# Altium footprint library OpenUltrasound_PcbLib.PcbLib: 28 footprints (part 2 of 2)
Each footprint in its own frame and in the unit in brackets; x right, y up, seen from the top. Pads: shape width x height; smd on the part's side, far side on the other; paste and mask are expansions set on the pad; w line width, h text height; cw(c..) or ccw(c..) is an arc to the next point about the centre after c.
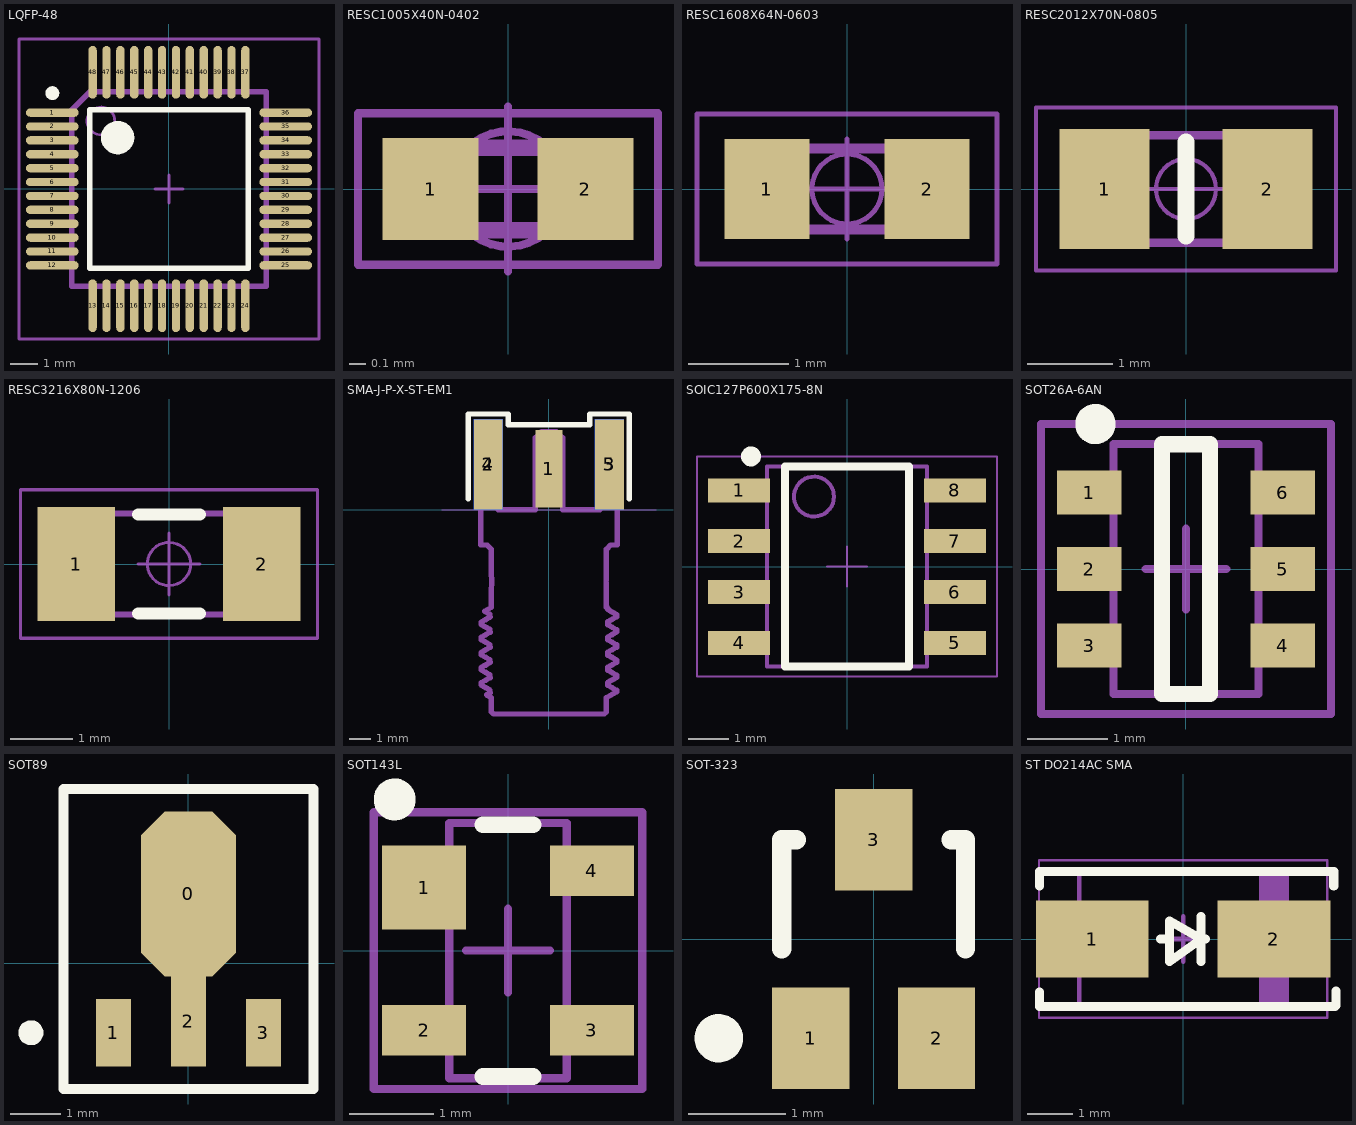
[diagram p1: the footprints below, top view; thin cyan lines are the x and y axes]

## LQFP-48 [mm] "TSQFP, 48-Leads, Body 9,0x9,0mm (max), Pitch 0,50mm, IPC Medium Density"
height 1.2
pads (48):
  oval 1.9x0.3 smd: 1(-4.2,2.75) 2(-4.2,2.25) 3(-4.2,1.75) 4(-4.2,1.25) 5(-4.2,0.75) 6(-4.2,0.25) 7(-4.2,-0.25) 8(-4.2,-0.75) 9(-4.2,-1.25) 10(-4.2,-1.75) 11(-4.2,-2.25) 12(-4.2,-2.75) 25(4.2,-2.75) 26(4.2,-2.25) 27(4.2,-1.75) 28(4.2,-1.25) 29(4.2,-0.75) 30(4.2,-0.25) 31(4.2,0.25) 32(4.2,0.75) 33(4.2,1.25) 34(4.2,1.75) 35(4.2,2.25) 36(4.2,2.75)
  oval 0.3x1.9 smd: 13(-2.75,-4.2) 14(-2.25,-4.2) 15(-1.75,-4.2) 16(-1.25,-4.2) 17(-0.75,-4.2) 18(-0.25,-4.2) 19(0.25,-4.2) 20(0.75,-4.2) 21(1.25,-4.2) 22(1.75,-4.2) 23(2.25,-4.2) 24(2.75,-4.2) 37(2.75,4.2) 38(2.25,4.2) 39(1.75,4.2) 40(1.25,4.2) 41(0.75,4.2) 42(0.25,4.2) 43(-0.25,4.2) 44(-0.75,4.2) 45(-1.25,4.2) 46(-1.75,4.2) 47(-2.25,4.2) 48(-2.75,4.2)
Top Overlay:
  circle w0.25: c-4.2,3.45 r0.125
  circle w0.6: c-1.85,1.85 r0.3
  lines w0.2: -2.85,-2.85 -2.85,2.85 2.85,2.85 2.85,-2.85 -2.85,-2.85
Mechanical 13:
  circle w0.1: c-2.45,2.45 r0.5
  lines w0.2: -3.5,-3.5 3.5,-3.5 3.5,3.5 -2.85,3.5 -3.5,2.85 -3.5,-3.5
  text ".Designator" at -2.54,-1.905 h2.5
Mechanical 15:
  lines w0.1: -0.5,0 0.5,0 ; 0,-0.5 0,0.5 ; -5.4,-5.4 -5.4,5.4 5.4,5.4 5.4,-5.4 -5.4,-5.4
3D body "LQFP48.step": height 1.5, standoff 0, extent -4.5,-4.5 4.5,4.5

## RESC1005X40N-0402 [mm] "Chip Resistor, EIA 0402, Metric 1005, Body 1.0x0.5mm, IPC Medium Density"
height 0.4
pads (2):
  rect 0.58x0.62 smd: 1(-0.47,0) 2(0.47,0)
Mechanical 14:
  lines w0.1: -0.5,-0.25 0.5,-0.25 0.5,0.25 -0.5,0.25 -0.5,-0.25
Mechanical 15:
  circle w0.05: c0,0 r0.35
  lines w0.05: -0.5,0 0.5,0 ; 0,-0.5 0,0.5 ; -0.91,-0.46 0.91,-0.46 0.91,0.46 -0.91,0.46 -0.91,-0.46
3D body "RESC1005X40N.stp": height 0.4, standoff 0, extent -0.525,-0.275 0.525,0.275

## RESC1608X64N-0603 [mm] "Chip Resistor, EIA 0603, Metric 1608, Body 1.6x0.8mm, IPC Medium Density"
height 0.64
pads (2):
  rect 0.85x1 smd: 1(-0.8,0) 2(0.8,0)
Mechanical 14:
  lines w0.1: -0.8,-0.405 -0.8,0.405 0.8,0.405 0.8,-0.405 -0.8,-0.405
Mechanical 15:
  circle w0.05: c0,0 r0.35
  lines w0.05: -0.5,0 0.5,0 ; 0,-0.5 0,0.5 ; -1.5,-0.75 -1.5,0.75 1.5,0.75 1.5,-0.75 -1.5,-0.75
3D body "RESC1608X64N.stp": height 0.64, standoff 0, extent -0.875,-0.475 0.875,0.475

## RESC2012X70N-0805 [mm] "Chip Resistor, EIA 0805, Metric 2012, Body 2.0x1.25mm, IPC Medium Density"
height 0.7
pads (2):
  rect 1.05x1.4 smd: 1(-0.95,0) 2(0.95,0)
Top Overlay:
  lines w0.2: 0,-0.55 0,0.55
Mechanical 14:
  lines w0.1: -1,-0.625 -1,0.625 1,0.625 1,-0.625 -1,-0.625
Mechanical 15:
  circle w0.05: c0,0 r0.35
  lines w0.05: -0.5,0 0.5,0 ; 0,-0.5 0,0.5 ; -1.75,-0.95 -1.75,0.95 1.75,0.95 1.75,-0.95 -1.75,-0.95
3D body "RESC2012X70N.stp": height 0.7, standoff 0, extent -1.1,-0.675 1.1,0.675

## RESC3216X80N-1206 [mm] "Chip Resistor, EIA 1206, Metric 3216, Body 3.2x1.6mm, IPC Medium Density"
height 0.8
pads (2):
  rect 1.25x1.85 smd: 1(-1.5,0) 2(1.5,0)
Top Overlay:
  lines w0.2: -0.5,-0.8 0.5,-0.8 ; -0.5,0.8 0.5,0.8
Mechanical 14:
  lines w0.1: -1.6,-0.815 -1.6,0.815 1.6,0.815 1.6,-0.815 -1.6,-0.815
Mechanical 15:
  circle w0.05: c0,0 r0.35
  lines w0.05: -0.5,0 0.5,0 ; 0,-0.5 0,0.5 ; -2.4,-1.2 -2.4,1.2 2.4,1.2 2.4,-1.2 -2.4,-1.2
3D body "RESC3216X80N.stp": height 0.8, standoff 0, extent -1.675,-0.875 1.675,0.875

## SMA-J-P-X-ST-EM1 [mm]
pads (5):
  rect 1.27x3.6 smd mask+0.05: 1(0,1.9)
  rect 1.35x4.2 smd mask+0.05: 2(-2.825,2.1) 3(2.825,2.1)
  rect 1.35x4.2 smd far side mask+0.05: 4(-2.825,2.1) 5(2.8,2.1)
Top Overlay:
  lines w0.254: -3.75,0.5 -3.75,4.45 -1.9,4.45 -1.9,3.95 1.9,3.95 1.9,4.45 3.75,4.45 3.75,0.5
Mechanical 1:
  lines w0.254: -3.164,-8.074 -3.164,-8.162 -3.15,-8.169 ; -3.164,-7.369 -3.164,-7.456 -3.15,-7.464 ; -3.164,-6.663 -3.164,-6.751 -3.15,-6.758 ; -3.164,-5.958 -3.164,-6.045 -3.151,-6.052 ; -3.164,-5.252 -3.164,-5.34 -3.152,-5.346 ; -3.158,-6.052 -2.948,-6.173 -2.744,-6.291 ; -3.159,-5.951 -2.949,-5.829 -2.739,-5.708 ; -3.159,-5.346 -2.949,-5.468 -2.744,-5.586 ; -3.158,-5.245 -2.948,-5.124 -2.738,-5.002 ; -3.157,-8.169 -2.947,-8.291 -2.744,-8.408 ; -3.157,-8.067 -2.947,-7.945 -2.737,-7.823 ; -3.157,-7.464 -2.947,-7.585 -2.744,-7.703 ; -3.157,-7.361 -2.947,-7.24 -2.737,-7.118 ; -3.157,-6.758 -2.947,-6.88 -2.744,-6.997 ; -3.157,-6.656 -2.947,-6.534 -2.737,-6.413 ; -2.992,-4.737 -2.947,-4.763 -2.744,-4.88 ; -2.991,-4.732 -2.675,-4.55 -2.675,-3.662 ccw(c-5.735,-3.35) -2.675,-3.034 ; -2.9,-8.63 -2.675,-8.76 -2.675,-9.42 -2.575,-9.52 0,-9.52 2.575,-9.52 2.675,-9.42 2.675,-8.76 3.164,-8.478 3.164,-8.427 3.152,-8.42 ; -2.901,-8.624 -2.737,-8.529 ; -2.744,-8.533 -2.744,-8.404 ; -2.744,-7.828 -2.744,-7.698 ; -2.744,-7.122 -2.744,-6.993 ; -2.744,-6.417 -2.744,-6.287 ; -2.744,-5.711 -2.744,-5.582 ; -2.744,-5.006 -2.744,-4.876 ; -2.675,-3.037 -2.675,-1.85 -2.875,-1.65 -3.175,-1.65 -3.175,0 -3.175,3.81 -2.365,3.81 -2.365,0 -0.635,0 -0.635,3.335 -0.335,3.635 0,3.635 0.335,3.635 0.635,3.335 0.635,0 2.365,0 2.365,3.81 3.175,3.81 3.175,0 3.175,-1.65 2.875,-1.65 2.675,-1.85 2.675,-3.037 2.675,-3.037 2.675,-3.042 2.673,-3.056 2.671,-3.078 2.668,-3.11 2.666,-3.149 2.663,-3.195 2.661,-3.244 2.659,-3.297 2.659,-3.35 2.66,-3.426 2.662,-3.476 2.664,-3.521 2.669,-3.595 2.673,-3.643 2.675,-3.663 2.675,-3.662 2.675,-4.55 2.744,-4.59 2.744,-4.653 2.947,-4.77 3.157,-4.892 ; -2.659,-3.35 -2.659,-3.327 ; 2.659,-3.355 2.659,-3.327 ; 2.737,-7.354 2.947,-7.232 3.157,-7.111 ; 2.737,-6.649 2.947,-6.527 3.157,-6.406 ; 2.737,-5.943 2.947,-5.822 3.157,-5.7 ; 2.737,-5.237 2.947,-5.116 3.157,-4.994 ; 2.739,-8.059 2.949,-7.937 3.159,-7.816 ; 2.744,-8.185 2.744,-8.055 ; 2.744,-8.181 2.949,-8.299 3.159,-8.42 ; 2.744,-7.479 2.744,-7.35 ; 2.744,-7.475 2.948,-7.593 3.158,-7.715 ; 2.744,-6.774 2.744,-6.644 ; 2.744,-6.77 2.947,-6.887 3.157,-7.008 ; 2.744,-6.068 2.744,-5.939 ; 2.744,-6.064 2.947,-6.181 3.157,-6.303 ; 2.744,-5.363 2.744,-5.233 ; 2.744,-5.358 2.947,-5.476 3.157,-5.597 ; 3.15,-7.008 3.164,-7.016 3.164,-7.104 ; 3.15,-6.303 3.164,-6.31 3.164,-6.398 ; 3.15,-5.597 3.164,-5.605 3.164,-5.692 ; 3.151,-7.715 3.164,-7.721 3.164,-7.809 ; 3.151,-4.892 3.164,-4.899 3.164,-4.987
  text "J1" at -0.497,-3.81 h0.76
Mechanical 16:
  lines w0.01: -5,0 5,0

## SOIC127P600X175-8N [mm] "SOIC 8, Pitch 1.27mm - Body 4x5mm, IPC Medium Density"
height 1.75
pads (8):
  rect 1.55x0.6 smd: 1(-2.7,1.905) 2(-2.7,0.635) 3(-2.7,-0.635) 4(-2.7,-1.905) 5(2.7,-1.905) 6(2.7,-0.635) 7(2.7,0.635) 8(2.7,1.905)
Top Overlay:
  circle w0.25: c-2.4,2.755 r0.125
  lines w0.2: -1.55,-2.5 -1.55,2.5 1.55,2.5 1.55,-2.5 -1.55,-2.5
Mechanical 14:
  circle w0.1: c-0.825,1.75 r0.5
  lines w0.1: -2,-2.5 -2,2.5 2,2.5 2,-2.5 -2,-2.5
Mechanical 15:
  lines w0.05: -0.5,0 0.5,0 ; 0,-0.5 0,0.5 ; -3.75,-2.75 -3.75,2.75 3.75,2.75 3.75,-2.75 -3.75,-2.75
3D body "SOIC127P600X175-8N.stp": height 1.75, standoff 0, extent -3.1,-2.5 3.1,2.5

## SOT26A-6AN [mm] "SOT23, 6-Leads, Body 2.9x1.6mm, Pitch 0.95mm, Lead Span 2.5mm, IPC Medium Density"
height 1.1
pads (6):
  rect 0.8x0.55 smd mask+0.06: 1(-1.2,0.95) 2(-1.2,0) 3(-1.2,-0.95) 4(1.2,-0.95) 5(1.2,0) 6(1.2,0.95)
Top Overlay:
  circle w0.25: c-1.125,1.8 r0.125
  lines w0.2: -0.3,-1.55 -0.3,1.55 0.3,1.55 0.3,-1.55 -0.3,-1.55
Mechanical 14:
  lines w0.1: -0.9,-1.55 -0.9,1.55 0.9,1.55 0.9,-1.55 -0.9,-1.55
Mechanical 15:
  lines w0.1: -0.5,0 0.5,0 ; 0,-0.5 0,0.5 ; -1.8,-1.8 1.8,-1.8 1.8,1.8 -1.8,1.8 -1.8,-1.8
3D body: height 1.1, standoff 0, extent -0.9,-1.55 0.9,1.55

## SOT89 [mm] "SOT-89; Body 4.6 x 4.25 mm, inc. leads (LxW max)"
height 1.6
pads (4):
  oct 1.9x3.3 smd: 0(0,1.388)
  rect 0.7x1.35 smd: 1(-1.5,-1.388) 3(1.5,-1.388)
  rect 0.7x1.8 smd: 2(0,-1.162)
Top Overlay:
  circle w0.25: c-3.15,-1.388 r0.125
  lines w0.2: -2.5,-2.512 -2.5,3.487 2.5,3.487 2.5,-2.512 -2.5,-2.512

## SOT143L [mm] "SOT143, 4-Leads, Body 2.9x1.3mm, Pitch 1.9mm, Lead Span 2.5mm, IPC High Density"
height 1.1
pads (4):
  rect 1x1 smd: 1(-1,0.75)
  rect 1x0.6 smd: 2(-1,-0.95) 3(1,-0.95) 4(1,0.95)
Top Overlay:
  circle w0.25: c-1.35,1.8 r0.125
  lines w0.2: -0.3,-1.5 0.3,-1.5 ; -0.3,1.5 0.3,1.5
Mechanical 13:
  lines w0.1: -0.7,-1.52 -0.7,1.52 0.7,1.52 0.7,-1.52 -0.7,-1.52
Mechanical 15:
  lines w0.1: -0.5,0 0.5,0 ; 0,-0.5 0,0.5 ; -1.6,-1.65 -1.6,1.65 1.6,1.65 1.6,-1.65 -1.6,-1.65
3D body: height 1.1, standoff 0, extent -0.7,-1.52 0.7,1.52

## SOT-323 [mm] "SOT-323/SC-70; 3 Leads; Body 2.2 x 2.2 mm, inc. leads (LxW max)"
height 1
pads (3):
  rect 0.8x1.05 smd: 1(-0.65,-1.025) 2(0.65,-1.025) 3(0,1.025)
Top Overlay:
  circle w0.25: c-1.6,-1.025 r0.125
  lines w0.2: -0.95,-0.1 -0.95,1.025 -0.8,1.025 ; 0.8,1.025 0.95,1.025 0.95,-0.1

## ST DO214AC SMA [mm] "Molded Diode, 2-Leads, Body 4.30x2.60mm, IPC Medium Density"
height 2.4
pads (2):
  rect 2.5x1.7 smd: 1(-2.015,0) 2(2.015,0)
Top Overlay:
  lines w0.2: -3.183,-1.5 -3.183,-1.175 ; -3.183,1.175 -3.183,1.5 3.35,1.5 ; -3.158,-1.5 3.375,-1.5 ; -0.5,0 -0.3,0 ; 0.4,-0.5 0.4,0.5 ; 0.5,0 0.4,0 ; 3.342,1.175 3.342,1.5 ; 3.392,-1.475 3.392,-1.15 ; 0.4,0 -0.3,0.4 -0.3,-0.5 0.4,0
Mechanical 13:
  rectangle: 1.681,-1.46 2.3,1.46
  lines w0.1: -2.3,-1.46 -2.3,1.46 2.3,1.46 2.3,-1.46 -2.3,-1.46
Mechanical 15:
  lines w0.05: -3.2,-1.75 -3.2,1.75 3.2,1.75 3.2,-1.75 -3.2,-1.75
  lines w0.1: -0.5,0 0.5,0 ; 0,-0.5 0,0.5
3D body "SMA.STEP": height 2.4, standoff 0, extent -2.6,-1.375 2.6,1.375